# EAGLE library part PAN1321-SPP (library m_module)
Panasonic PAN1321-SPP Bluetooth Module Features: Complete Bluetooth 2.0 + EDR solution – Configurable for BT 1.2 Ultra low power design in 0.13 µm CMOS Temperature range from -40°C to 85°C Integrates ARM7TDMI, RAM and patchable ROM On-module voltage regulators. External supply 2.9 - 4.1 V On-module EEPROM with configuration data Reference clock included Low power clock from internal oscillator or external low power clock (e.g. 32.768 kHz) Dynamic low power mode switching Interfaces: AT command interface over UART, configurable from 9600 baud up to 3.25 MBaud General purpose I/Os with interrupt capabilities. JTAG for boundary scan and debug RF: Transmit power typ. 2.5 dBm (default settings) Receiver sensitivity typ. -86 dBm Integrated antenna switch, balun and antenna filter Integrated LNA with excellent blocking and intermodulation performance No external components except antenna Digital demodulation for optimum sensitivity and co-/adjacent channel performance Bluetooth: Bluetooth V2.0 + EDR compliant SPP Device A and B support 1 ACL link with stream or command mode SPP Device A and B - Visible while connected SPP Device A and B - Visible/connectable when not connected SPP Device A and B - Device Discovery capable after receiving OK on data transfer Sniff mode is supported with above capabilities 5 trusted devices stored in EEPROM Testing Enable DUT Crystal calibration H4 with UART HW flow control (RTS/CTS) Security modes: Modes 1 and Mode 3 Master-Slave role switch Added 11/17/2012. Manual revision 3.3
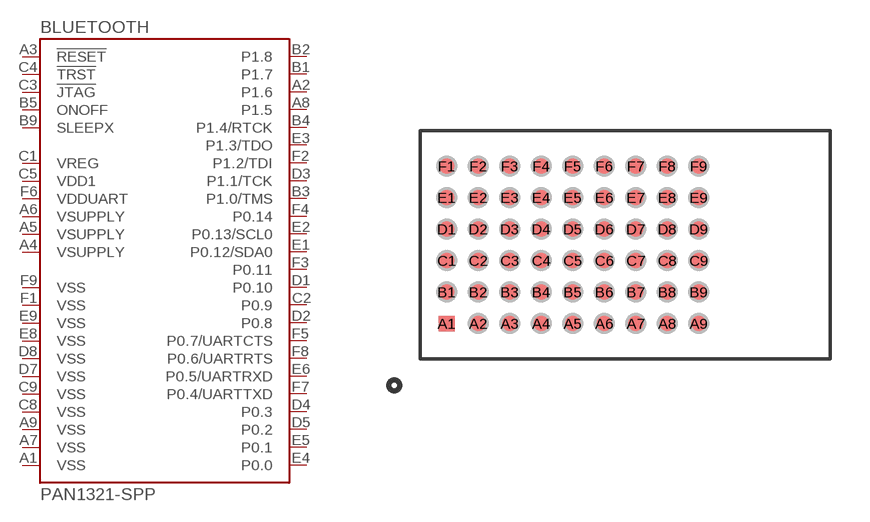
[diagram p6: symbol with the pads of PAN1321; footprint PAN1321]

Designator prefix BLUETOOTH

## PAN1321-SPP (MANUF: Panasonic; PARTNUM: PAN1321-SPP)  [PAN1321]
A1  VSS  pas
A2  P1.6  pas
A3  !RESET  pas
A4  VSUPPLY  pas
A5  VSUPPLY  pas
A6  VSUPPLY  pas
A7  VSS  pas
A8  P1.5  pas
A9  VSS  pas
B1  P1.7  pas
B2  P1.8  pas
B3  P1.0/TMS  pas
B4  P1.4/RTCK  pas
B5  ONOFF  pas
B9  SLEEPX  pas
C1  VREG  pas
C2  P0.9  pas
C3  !JTAG  pas
C4  !TRST  pas
C5  VDD1  pas
C8  VSS  pas
C9  VSS  pas
D1  P0.10  pas
D2  P0.8  pas
D3  P1.1/TCK  pas
D4  P0.3  pas
D5  P0.2  pas
D7  VSS  pas
D8  VSS  pas
E1  P0.12/SDA0  pas
E2  P0.13/SCL0  pas
E3  P1.3/TDO  pas
E4  P0.0  pas
E5  P0.1  pas
E6  P0.5/UARTRXD  pas
E8  VSS  pas
E9  VSS  pas
F1  VSS  pas
F2  P1.2/TDI  pas
F3  P0.11  pas
F4  P0.14  pas
F5  P0.7/UARTCTS  pas
F6  VDDUART  pas
F7  P0.4/UARTTXD  pas
F8  P0.6/UARTRTS  pas
F9  VSS  pas

## Footprint PAN1321 (pad centres in mm)
Panasonic PAN1321 Bluetooth Module 54 pin LGA package Added 11/17/2012, Panasonic datasheet revision 3.3
smd 0.6 x 0.6: A1 -6.8,-3; A2 -5.6,-3; A3 -4.4,-3; A4 -3.2,-3; A5 -2,-3; A6 -0.8,-3; A7 0.4,-3; A8 1.6,-3; A9 2.8,-3; B1 -6.8,-1.8; B2 -5.6,-1.8; B3 -4.4,-1.8; B4 -3.2,-1.8; B5 -2,-1.8; B6 -0.8,-1.8; B7 0.4,-1.8; B8 1.6,-1.8; B9 2.8,-1.8; C1 -6.8,-0.6; C2 -5.6,-0.6; C3 -4.4,-0.6; C4 -3.2,-0.6; C5 -2,-0.6; C6 -0.8,-0.6; C7 0.4,-0.6; C8 1.6,-0.6; C9 2.8,-0.6; D1 -6.8,0.6; D2 -5.6,0.6; D3 -4.4,0.6; D4 -3.2,0.6; D5 -2,0.6; D6 -0.8,0.6; D7 0.4,0.6; D8 1.6,0.6; D9 2.8,0.6; E1 -6.8,1.8; E2 -5.6,1.8; E3 -4.4,1.8; E4 -3.2,1.8; E5 -2,1.8; E6 -0.8,1.8; E7 0.4,1.8; E8 1.6,1.8; E9 2.8,1.8; F1 -6.8,3; F2 -5.6,3; F3 -4.4,3; F4 -3.2,3; F5 -2,3; F6 -0.8,3; F7 0.4,3; F8 1.6,3; F9 2.8,3